# Altium footprint library DS18B20U+T&R.PcbLib: 3 footprints
Each footprint in its own frame and in the unit in brackets; x right, y up, seen from the top. Pads: shape width x height; smd on the part's side, far side on the other; paste and mask are expansions set on the pad; w line width, h text height; cw(c..) or ccw(c..) is an arc to the next point about the centre after c.
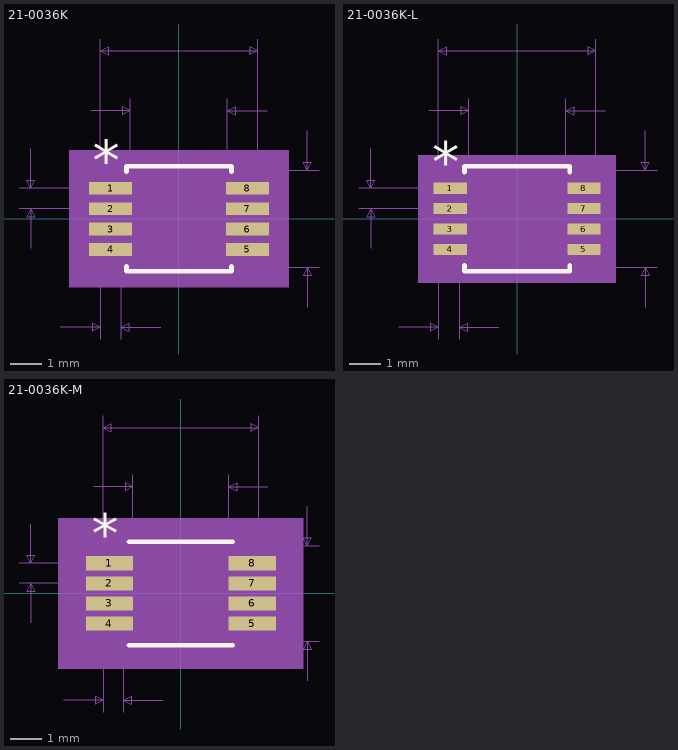
[diagram p0: the footprints below, top view; thin cyan lines are the x and y axes]

## 21-0036K [mil]
pads (8):
  rect 54x16 smd paste+0 mask+0: 1(-86,38.39) 2(-86,12.8) 3(-86,-12.8) 4(-86,-38.39) 5(86,-38.39) 6(86,-12.8) 7(86,12.8) 8(86,38.39)
Top Overlay:
  lines w6: -66,-59.49 -66,-66 66,-66 66,-59.49 ; -66,59.49 -66,66 66,66 66,59.49
  text "*" at -108.5,49.39 h50
Mechanical 5:
  region: 138,-86 -138,-86 -138,86 138,86
Mechanical 7:
  lines w1: -201,12.8 -86,12.8 ; -201,38.39 -86,38.39 ; -186,-37.2 -186,12.8 ; -186,88.39 -186,38.39 ; -149,-136 -99,-136 ; -111,136 -61,136 ; -99,-151 -99,0 -99,226 ; -73,-151 -73,0 ; -61,0 -61,151 ; -23,-136 -73,-136 ; 0,-61 176,-61 ; 0,61 176,61 ; 61,0 61,151 ; 99,0 99,226 ; 111,136 61,136 ; 161,-111 161,-61 ; 161,111 161,61 ; -186,12.8 -191,2.8 -181,2.8 -186,12.8 ; -186,38.39 -191,48.39 -181,48.39 -186,38.39 ; -99,-136 -109,-131 -109,-141 -99,-136 ; -99,211 99,211 ; -99,211 -89,216 -89,206 -99,211 ; -73,-136 -63,-131 -63,-141 -73,-136 ; -61,136 -71,141 -71,131 -61,136 ; 61,136 71,141 71,131 61,136 ; 99,211 89,216 89,206 99,211 ; 161,-61 156,-71 166,-71 161,-61 ; 161,61 156,71 166,71 161,61
  text "Default Padstyle: RX54Y16D0T" at -350,-261 h50
  text "Pin One Padstyle: RX54Y16D0T" at -350,-321 h50
  text "Alt 1 Padstyle: OX60Y90D30P" at -337.5,-501 h50
  text "Alt 2 Padstyle: OX90Y60D30P" at -337.5,-561 h50
  text "0.122in/3.099mm" at -93.75,156 h25
  text "0.198in/5.029mm" at -93.75,231 h25
  text "0.122in/3.099mm" at 181,-12.5 h25
  text "0.026in/0.65mm" at -381,13.09 h25
  text "0.026in/0.66mm" at -173.5,-181 h25
Mechanical 13:
  lines w0: -12,61 ccw(c0,61) 12,61
  lines w1: -99,-45.39 -99,-31.39 -61,-31.39 -61,-45.39 -99,-45.39 ; -99,-19.8 -99,-5.8 -61,-5.8 -61,-19.8 -99,-19.8 ; -99,5.8 -99,19.8 -61,19.8 -61,5.8 -99,5.8 ; -99,31.39 -99,45.39 -61,45.39 -61,31.39 -99,31.39 ; -61,-61 61,-61 61,61 -61,61 -61,-61 ; 61,-45.39 61,-31.39 99,-31.39 99,-45.39 61,-45.39 ; 61,-19.8 61,-5.8 99,-5.8 99,-19.8 61,-19.8 ; 61,5.8 61,19.8 99,19.8 99,5.8 61,5.8 ; 61,31.39 61,45.39 99,45.39 99,31.39 61,31.39
  text "*" at -58.5,8 h50
Mechanical 15:
  region: -71,-56.39 -123,-56.39 -123,56.39 -71,56.39 -71,71 71,71 71,56.39 123,56.39 123,-56.39 71,-56.39 71,-71 -71,-71
  lines w6: -123,-56.39 -123,56.39 -71,56.39 -71,71 71,71 71,56.39 123,56.39 123,-56.39 71,-56.39 71,-71 -71,-71 -71,-56.39 -123,-56.39
3D body: height 10, standoff 0, extent 0,0 10,10

## 21-0036K-L [mil]
pads (8):
  rect 42x14 smd paste+0 mask+0: 1(-84,38.39) 2(-84,12.8) 3(-84,-12.8) 4(-84,-38.39) 5(84,-38.39) 6(84,-12.8) 7(84,12.8) 8(84,38.39)
Top Overlay:
  lines w6: -66,-58.49 -66,-66 66,-66 66,-58.49 ; -66,58.49 -66,66 66,66 66,58.49
  text "*" at -106.5,47.39 h50
Mechanical 5:
  region: 124,-80 -124,-80 -124,80 124,80
Mechanical 7:
  lines w1: -199,12.8 -84,12.8 ; -199,38.39 -84,38.39 ; -184,-37.2 -184,12.8 ; -184,88.39 -184,38.39 ; -149,-136 -99,-136 ; -111,136 -61,136 ; -99,-151 -99,0 -99,226 ; -73,-151 -73,0 ; -61,0 -61,151 ; -23,-136 -73,-136 ; 0,-61 176,-61 ; 0,61 176,61 ; 61,0 61,151 ; 99,0 99,226 ; 111,136 61,136 ; 161,-111 161,-61 ; 161,111 161,61 ; -184,12.8 -189,2.8 -179,2.8 -184,12.8 ; -184,38.39 -189,48.39 -179,48.39 -184,38.39 ; -99,-136 -109,-131 -109,-141 -99,-136 ; -99,211 99,211 ; -99,211 -89,216 -89,206 -99,211 ; -73,-136 -63,-131 -63,-141 -73,-136 ; -61,136 -71,141 -71,131 -61,136 ; 61,136 71,141 71,131 61,136 ; 99,211 89,216 89,206 99,211 ; 161,-61 156,-71 166,-71 161,-61 ; 161,61 156,71 166,71 161,61
  text "Default Padstyle: RX42Y14D0T" at -350,-261 h50
  text "Pin One Padstyle: RX42Y14D0T" at -350,-321 h50
  text "Alt 1 Padstyle: OX60Y90D30P" at -337.5,-501 h50
  text "Alt 2 Padstyle: OX90Y60D30P" at -337.5,-561 h50
  text "0.122in/3.099mm" at -93.75,156 h25
  text "0.198in/5.029mm" at -93.75,231 h25
  text "0.122in/3.099mm" at 181,-12.5 h25
  text "0.026in/0.65mm" at -379,13.09 h25
  text "0.026in/0.66mm" at -173.5,-181 h25
Mechanical 13:
  lines w0: -12,61 ccw(c0,61) 12,61
  lines w1: -99,-45.39 -99,-31.39 -61,-31.39 -61,-45.39 -99,-45.39 ; -99,-19.8 -99,-5.8 -61,-5.8 -61,-19.8 -99,-19.8 ; -99,5.8 -99,19.8 -61,19.8 -61,5.8 -99,5.8 ; -99,31.39 -99,45.39 -61,45.39 -61,31.39 -99,31.39 ; -61,-61 61,-61 61,61 -61,61 -61,-61 ; 61,-45.39 61,-31.39 99,-31.39 99,-45.39 61,-45.39 ; 61,-19.8 61,-5.8 99,-5.8 99,-19.8 61,-19.8 ; 61,5.8 61,19.8 99,19.8 99,5.8 61,5.8 ; 61,31.39 61,45.39 99,45.39 99,31.39 61,31.39
  text "*" at -58.5,8 h50
Mechanical 15:
  region: -65,-49.39 -109,-49.39 -109,49.39 -65,49.39 -65,65 65,65 65,49.39 109,49.39 109,-49.39 65,-49.39 65,-65 -65,-65
  lines w6: -109,-49.39 -109,49.39 -65,49.39 -65,65 65,65 65,49.39 109,49.39 109,-49.39 65,-49.39 65,-65 -65,-65 -65,-49.39 -109,-49.39
3D body: height 10, standoff 0, extent 0,0 10,10

## 21-0036K-M [mil]
pads (8):
  rect 60x18 smd paste+0 mask+0: 1(-91,38.39) 2(-91,12.8) 3(-91,-12.8) 4(-91,-38.39) 5(91,-38.39) 6(91,-12.8) 7(91,12.8) 8(91,38.39)
Top Overlay:
  lines w6: -66,-66 66,-66 ; -66,66 66,66
  text "*" at -113.5,51.39 h50
Mechanical 5:
  region: 156,-96 -156,-96 -156,96 156,96
Mechanical 7:
  lines w1: -206,12.8 -91,12.8 ; -206,38.39 -91,38.39 ; -191,-37.2 -191,12.8 ; -191,88.39 -191,38.39 ; -149,-136 -99,-136 ; -111,136 -61,136 ; -99,-151 -99,0 -99,226 ; -73,-151 -73,0 ; -61,0 -61,151 ; -23,-136 -73,-136 ; 0,-61 176,-61 ; 0,61 176,61 ; 61,0 61,151 ; 99,0 99,226 ; 111,136 61,136 ; 161,-111 161,-61 ; 161,111 161,61 ; -191,12.8 -196,2.8 -186,2.8 -191,12.8 ; -191,38.39 -196,48.39 -186,48.39 -191,38.39 ; -99,-136 -109,-131 -109,-141 -99,-136 ; -99,211 99,211 ; -99,211 -89,216 -89,206 -99,211 ; -73,-136 -63,-131 -63,-141 -73,-136 ; -61,136 -71,141 -71,131 -61,136 ; 61,136 71,141 71,131 61,136 ; 99,211 89,216 89,206 99,211 ; 161,-61 156,-71 166,-71 161,-61 ; 161,61 156,71 166,71 161,61
  text "Default Padstyle: RX60Y18D0T" at -350,-261 h50
  text "Pin One Padstyle: RX60Y18D0T" at -350,-321 h50
  text "Alt 1 Padstyle: OX60Y90D30P" at -337.5,-501 h50
  text "Alt 2 Padstyle: OX90Y60D30P" at -337.5,-561 h50
  text "0.122in/3.099mm" at -93.75,156 h25
  text "0.198in/5.029mm" at -93.75,231 h25
  text "0.122in/3.099mm" at 181,-12.5 h25
  text "0.026in/0.65mm" at -386,13.09 h25
  text "0.026in/0.66mm" at -173.5,-181 h25
Mechanical 13:
  lines w0: -12,61 ccw(c0,61) 12,61
  lines w1: -99,-45.39 -99,-31.39 -61,-31.39 -61,-45.39 -99,-45.39 ; -99,-19.8 -99,-5.8 -61,-5.8 -61,-19.8 -99,-19.8 ; -99,5.8 -99,19.8 -61,19.8 -61,5.8 -99,5.8 ; -99,31.39 -99,45.39 -61,45.39 -61,31.39 -99,31.39 ; -61,-61 61,-61 61,61 -61,61 -61,-61 ; 61,-45.39 61,-31.39 99,-31.39 99,-45.39 61,-45.39 ; 61,-19.8 61,-5.8 99,-5.8 99,-19.8 61,-19.8 ; 61,5.8 61,19.8 99,19.8 99,5.8 61,5.8 ; 61,31.39 61,45.39 99,45.39 99,31.39 61,31.39
  text "*" at -58.5,8 h50
Mechanical 15:
  region: -81,-67.39 -141,-67.39 -141,67.39 -81,67.39 -81,81 81,81 81,67.39 141,67.39 141,-67.39 81,-67.39 81,-81 -81,-81
  lines w6: -141,-67.39 -141,67.39 -81,67.39 -81,81 81,81 81,67.39 141,67.39 141,-67.39 81,-67.39 81,-81 -81,-81 -81,-67.39 -141,-67.39
3D body: height 10, standoff 0, extent 0,0 10,10